# EAGLE library part MSP430G2553?28 (library ElevenDroids - ICs)
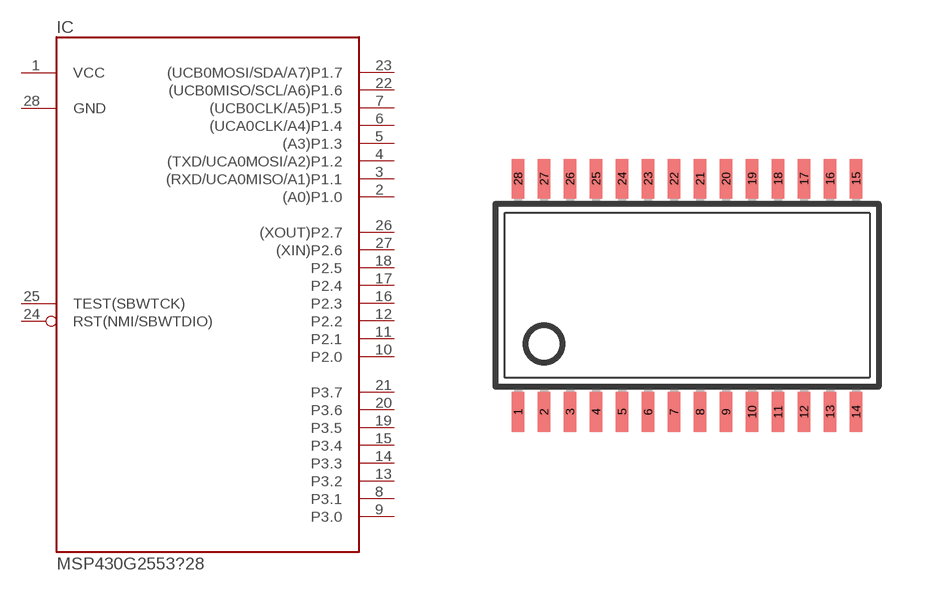
[diagram p13: symbol with the pads of TSSOP28; footprint TSSOP28]

Designator prefix IC

## MSP430G2553IPW28  [TSSOP28]
1  VCC  pwr
2  (A0)P1.0
3  (RXD/UCA0MISO/A1)P1.1
4  (TXD/UCA0MOSI/A2)P1.2
5  (A3)P1.3
6  (UCA0CLK/A4)P1.4
7  (UCB0CLK/A5)P1.5
8  P3.1
9  P3.0
10  P2.0
11  P2.1
12  P2.2
13  P3.2
14  P3.3
15  P3.4
16  P2.3
17  P2.4
18  P2.5
19  P3.5
20  P3.6
21  P3.7
22  (UCB0MISO/SCL/A6)P1.6
23  (UCB0MOSI/SDA/A7)P1.7
24  RST(NMI/SBWTDIO)
25  TEST(SBWTCK)
26  (XOUT)P2.7
27  (XIN)P2.6
28  GND  pwr

## Footprint TSSOP28 (pad centres in mm)
Thin Shrink Small Outline Plastic 28 MAX3223-MAX3243.pdf
smd 0.305 x 0.991: 1 -4.225,-2.918; 2 -3.575,-2.918; 3 -2.925,-2.918; 4 -2.275,-2.918; 5 -1.625,-2.918; 6 -0.975,-2.918; 7 -0.325,-2.918; 8 0.325,-2.918; 9 0.975,-2.918; 10 1.625,-2.918; 11 2.275,-2.918; 12 2.925,-2.918; 13 3.575,-2.918; 14 4.225,-2.918; 15 4.225,2.918; 16 3.575,2.918; 17 2.925,2.918; 18 2.275,2.918; 19 1.625,2.918; 20 0.975,2.918; 21 0.325,2.918; 22 -0.325,2.918; 23 -0.975,2.918; 24 -1.625,2.918; 25 -2.275,2.918; 26 -2.925,2.918; 27 -3.575,2.918; 28 -4.225,2.918